# Altium footprint library Rohm.PcbLib: 2 footprints
Each footprint in its own frame and in the unit in brackets; x right, y up, seen from the top. Pads: shape width x height; smd on the part's side, far side on the other; paste and mask are expansions set on the pad; w line width, h text height; cw(c..) or ccw(c..) is an arc to the next point about the centre after c.
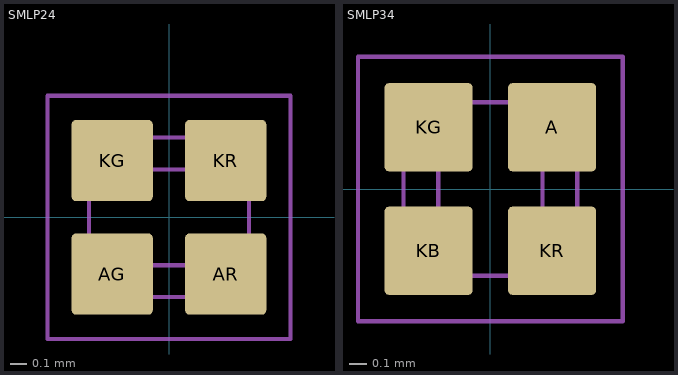
[diagram p0: the footprints below, top view; thin cyan lines are the x and y axes]

## SMLP24 [mil] "Rohm SMLP24 1mm x 1mm R/G LED"
pads (4):
  rrect10% 20x20 smd mask+1: AG(-14.01,-14) AR(13.99,-14) KG(-14.01,14) KR(13.99,14)
Top Solder:
  region: 0,34 6,44 -6,44
Top Component Outline:
  lines w1: -30,-30 -30,30 30,30 30,-30 -30,-30
Top 3D Body (Mech16):
  lines w1: -19.69,-11.81 19.68,-11.81 ; -19.69,-5.91 -5.91,-5.91 -5.91,-19.68 ; -19.69,5.91 -5.91,5.91 -5.91,19.68 ; -19.69,11.81 19.68,11.81 ; -11.82,-19.68 -11.82,-11.81 ; -11.82,11.81 -11.82,19.68 ; -9.01,19.68 -1.13,19.68 ; 5.9,-19.68 5.9,-5.91 19.68,-5.91 ; 5.9,19.68 5.9,5.91 19.68,5.91 ; 11.8,-19.68 11.8,-11.81 ; 11.8,11.81 11.8,19.68 ; -19.69,-15.75 -15.75,-19.68 15.74,-19.68 19.68,-15.75 19.68,15.75 15.74,19.68 -15.75,19.68 -19.69,15.75 -19.69,-15.75
3D body: height 5.51, standoff 3.19, extent 4.5,0 9.5,4
3D body: height 5.51, standoff 3.19, extent -10,0 -5,4
3D body: height 3.23, standoff 3.19, extent 11.8,-19.68 19.68,-11.81
3D body: height 3.23, standoff 3.19, extent -19.69,-19.68 -11.82,-11.81
3D body: height 3.23, standoff 3.19, extent 11.8,11.81 19.68,19.68
3D body: height 3.23, standoff 3.19, extent -10.01,11.81 9.99,19.68
3D body: height 3.23, standoff 3.19, extent -19.69,11.81 -11.82,19.68
3D body: height 7.87, standoff 3.11, extent -19.69,-11.81 19.68,11.81
3D body: height 3.15, standoff 0, extent -19.69,-19.68 19.68,19.68

## SMLP34 [mil] "Rohm SMLP34 1mm x 1mm RGB LED"
pads (4):
  rrect10% 20x20 smd mask+1: A(14,14) KB(-14,-14) KG(-14,14) KR(14,-14)
Top Solder:
  region: 28,0 38,-6 38,6
Top Component Outline:
  lines w1: -30,-30 -30,30 30,30 30,-30 -30,-30
Top 3D Body (Mech16):
  lines w1: -19.68,-11.81 -11.81,-11.81 ; -19.68,-5.91 -5.91,-5.91 -5.91,-19.68 ; -19.68,5.91 -5.91,5.91 -5.91,19.68 ; -19.68,11.81 -11.81,11.81 ; -11.81,-19.68 -11.81,19.68 ; 5.91,-19.68 5.91,-5.91 19.68,-5.91 ; 5.91,19.68 5.91,5.91 19.68,5.91 ; 11.81,-19.68 11.81,19.68 ; 11.81,-11.81 19.68,-11.81 ; 11.81,11.81 19.68,11.81 ; 19.68,1.13 19.68,9 ; -19.68,-15.75 -15.75,-19.68 15.75,-19.68 19.68,-15.75 19.68,15.75 15.75,19.68 -15.75,19.68 -19.68,15.75 -19.68,-15.75
3D body: height 3.15, standoff 0, extent -19.68,-19.68 19.68,19.68
3D body: height 7.87, standoff 3.11, extent -11.81,-19.68 11.81,19.68
3D body: height 3.23, standoff 3.19, extent 11.81,11.81 19.68,19.68
3D body: height 3.23, standoff 3.19, extent 11.81,3.94 19.68,11.81
3D body: height 3.23, standoff 3.19, extent 11.81,-19.68 19.68,-11.81
3D body: height 3.23, standoff 3.19, extent -19.68,11.81 -11.81,19.68
3D body: height 3.23, standoff 3.19, extent -19.68,-19.68 -11.81,-11.81
3D body: height 5.91, standoff 3.19, extent -6,9 -2,14
3D body: height 5.51, standoff 3.19, extent -7,-14 -3,-9
3D body: height 5.51, standoff 3.19, extent 3.91,-8.4 7.91,-3.4